# Altium schematic symbol library UCC23514EDWVR.SchLib: 1 symbol
Pins are listed as number, name and electrical type; pins without a type are passive.

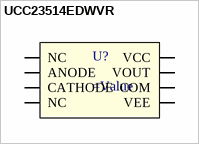
[diagram p0: symbol UCC23514EDWVR]

## UCC23514EDWVR
designator U?
pins: 1 NC, 2 ANODE, 3 CATHODE, 4 NC, 5 VEE (power), 6 COM (power), 7 VOUT, 8 VCC (power)